# Altium schematic symbol library T495D336K016ATE225.SchLib: 1 symbol
Pins are listed as number, name and electrical type; pins without a type are passive.

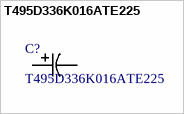
[diagram p0: symbol T495D336K016ATE225]

## T495D336K016ATE225
designator C?
T495, Tantalum, MnO2 Tantalum, Commercial Grade, 33 uF, 10%, 16 VDC, SMD, MnO2, Molded, Low ESR, 225 mOhms, 7343, Height Max = 3.1mm; Manufacturer_Name: Kemet; Copyright: Copyright (C) 2026 Ultra Librarian. All rights reserved.; Manufacturer_Part_Number: T495D336K016ATE225; Datasheet: https://content.kemet.com/datasheets/KEM_T2009_T495.pdf
footprint CAPMP7.6X4.3_3.1N_KEM
pins: 1, 2